# Altium footprint library CAP 0805 16V.PcbLib: 2 footprints
Each footprint in its own frame and in the unit in brackets; x right, y up, seen from the top. Pads: shape width x height; smd on the part's side, far side on the other; paste and mask are expansions set on the pad; w line width, h text height; cw(c..) or ccw(c..) is an arc to the next point about the centre after c.
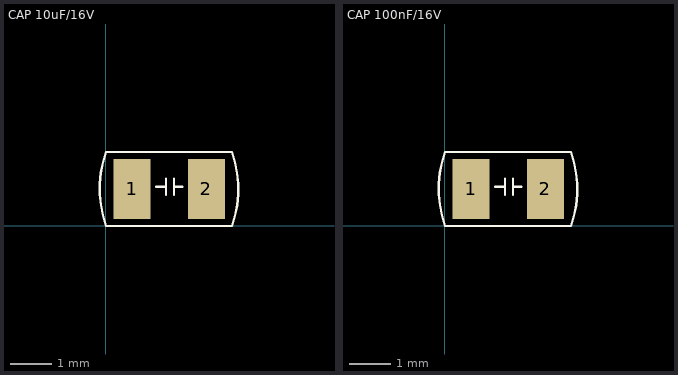
[diagram p0: the footprints below, top view; thin cyan lines are the x and y axes]

## CAP 10uF/16V [mm] "10µF ±10% 16V Ceramic Capacitor X5R 0805 (2012 Metric)"
pads (2):
  rect 0.9x1.45 smd: 1(0.63,0.9) 2(2.43,0.9)
Top Overlay:
  lines w0.05: 0,0 3.05,0 ccw(c0.55,0.89) 3.047,1.789 ; 0.003,0.001 cw(c2.5,0.9) 0,1.79 3.05,1.79 ; 1.21,0.95 1.45,0.95 ; 1.45,0.75 1.45,0.95 ; 1.45,1.15 1.45,0.95 ; 1.65,0.75 1.65,0.95 ; 1.65,1.15 1.65,0.95 ; 1.85,0.95 1.65,0.95
3D body "Capacitor SMD 0805.step": height 0.61, standoff 0.01, extent 0.52,0.295 2.52,1.545

## CAP 100nF/16V [mm] "0.1µF ±20% 16V Ceramic Capacitor Y5V (F) 0805 (2012 Metric)"
pads (2):
  rect 0.9x1.45 smd: 1(0.63,0.9) 2(2.43,0.9)
Top Overlay:
  lines w0.05: 0,0 3.05,0 ccw(c0.55,0.89) 3.047,1.789 ; 0.003,0.001 cw(c2.5,0.9) 0,1.79 3.05,1.79 ; 1.21,0.95 1.45,0.95 ; 1.45,0.75 1.45,0.95 ; 1.45,1.15 1.45,0.95 ; 1.65,0.75 1.65,0.95 ; 1.65,1.15 1.65,0.95 ; 1.85,0.95 1.65,0.95
3D body "Capacitor SMD 0805.step": height 0.61, standoff 0.01, extent 0.51,0.265 2.51,1.515